# Altium footprint library PcbLib1.PcbLib: 29 footprints (part 1 of 2)
Each footprint in its own frame and in the unit in brackets; x right, y up, seen from the top. Pads: shape width x height; smd on the part's side, far side on the other; paste and mask are expansions set on the pad; w line width, h text height; cw(c..) or ccw(c..) is an arc to the next point about the centre after c.
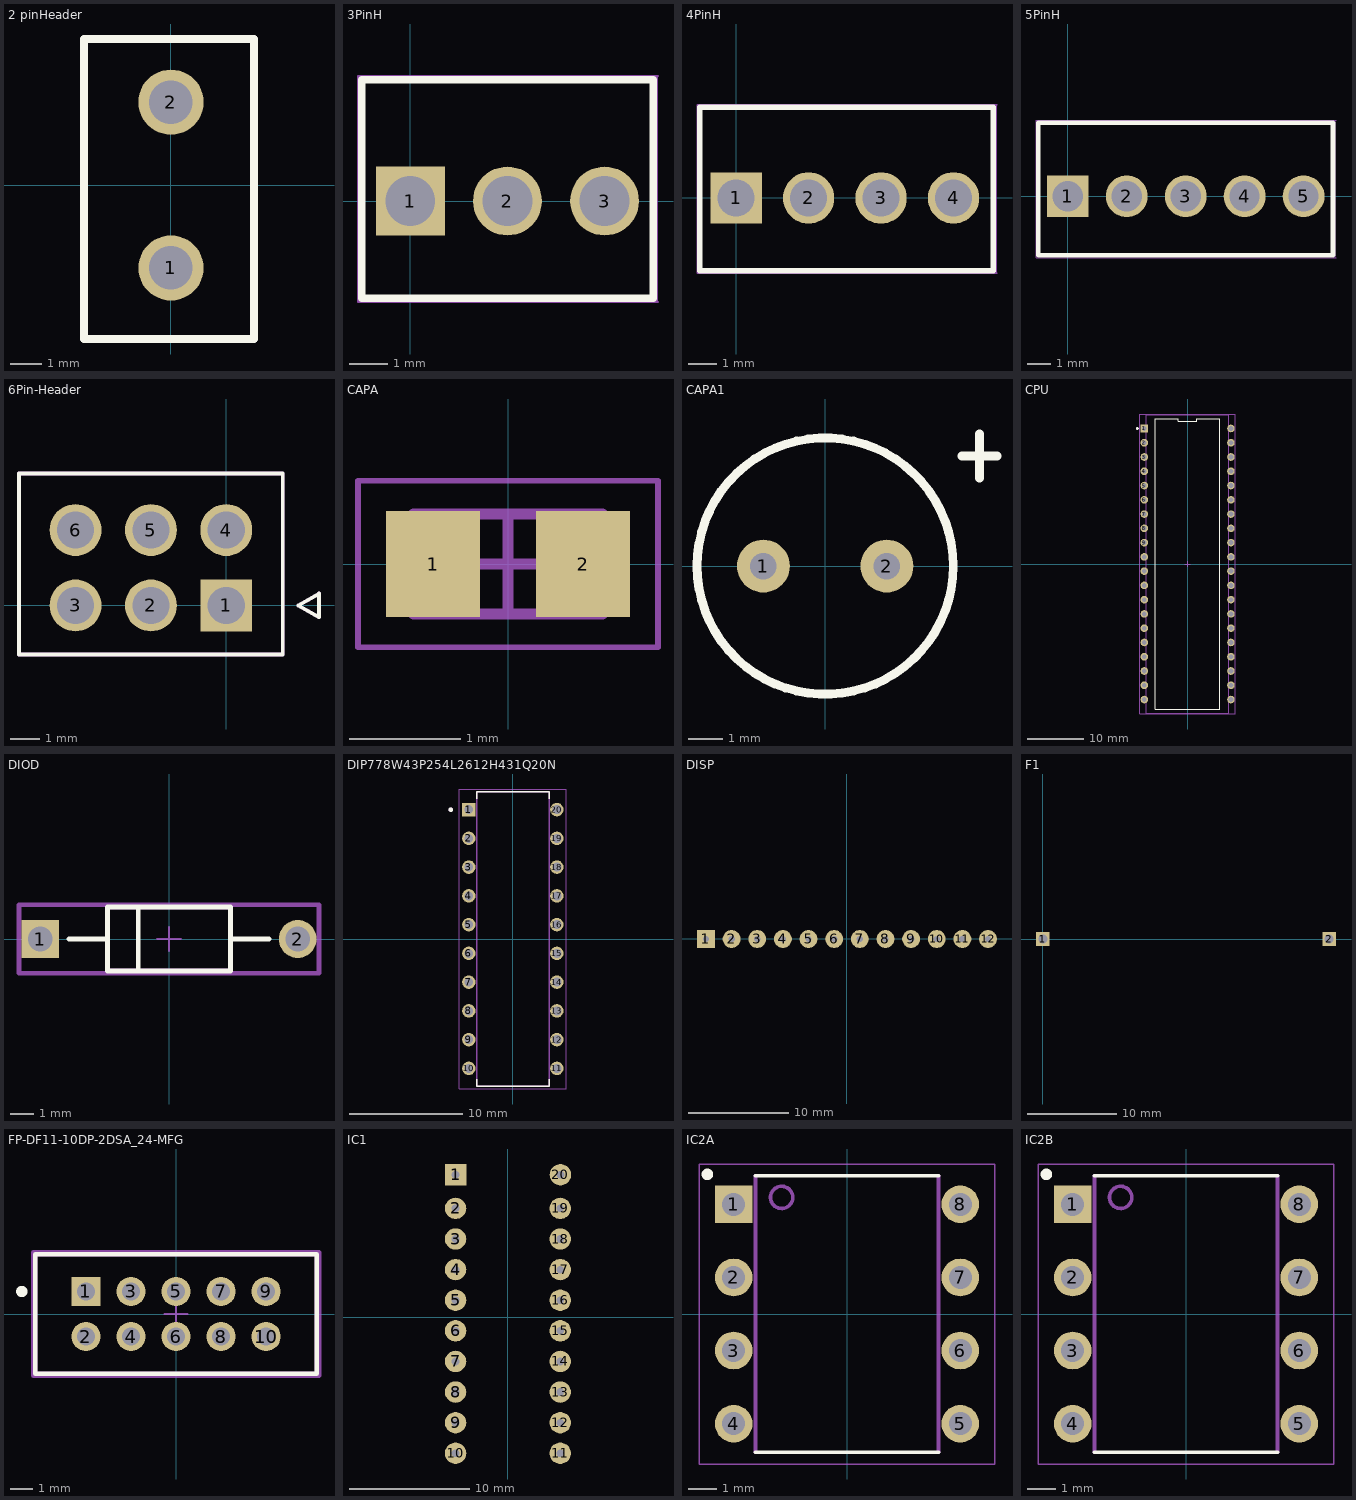
[diagram p0: the footprints below, top view; thin cyan lines are the x and y axes]

## 2 pinHeader [mm]
pads (2):
  round 2.1 hole 1.4: 1(0,-2.667) 2(0,2.667)
Top Overlay:
  lines w0.254: -2.794,-4.953 2.667,-4.953 2.667,4.699 -2.794,4.699 -2.794,4.445 -2.794,-4.953

## 3PinH [mm] "TECO-640456-6_V"
height 10.03
pads (3):
  rect 1.8x1.8 hole 1.3: 1(0,0)
  round 1.8 hole 1.3: 2(2.54,0) 3(5.08,0)
Top Overlay:
  lines w0.2: -1.27,-2.545 6.35,-2.545 6.35,3.175 -1.27,3.175 -1.27,-2.545
Mechanical 13:
  lines w0.1: -1.27,-2.545 6.35,-2.545 6.35,-1.115 6.35,1.745 6.35,3.175 -1.27,3.175 -1.27,-2.545
Mechanical 15:
  lines w0.05: 6.45,-2.645 6.45,-1.165 6.45,1.795 6.45,3.275 ; 6.477,-2.645 -1.37,-2.645 -1.37,3.275 6.477,3.275
3D body: height 10.03, standoff 0, extent -1.27,-2.606 6.223,3.114

## 4PinH [mm] "TECO-640456-6_V"
height 10.03
pads (4):
  rect 1.8x1.8 hole 1.3: 1(0,0)
  round 1.8 hole 1.3: 2(2.54,0) 3(5.08,0) 4(7.62,0)
Top Overlay:
  lines w0.2: -1.27,-2.545 9.017,-2.545 9.017,3.175 -1.27,3.175 -1.27,-2.545
Mechanical 13:
  lines w0.1: -1.27,-2.545 9.017,-2.545 9.017,3.175 -1.27,3.175 -1.27,-2.545
Mechanical 15:
  lines w0.05: 9.117,-2.645 9.117,3.275 ; 9.144,-2.645 -1.37,-2.645 -1.37,3.275 9.144,3.275
3D body: height 10.03, standoff 0, extent -1.27,-2.545 9.017,3.175

## 5PinH [mm] "TECO-640456-6_V"
height 10.03
pads (5):
  rect 1.8x1.8 hole 1.3: 1(0,0)
  round 1.8 hole 1.3: 2(2.54,0) 3(5.08,0) 4(7.62,0) 5(10.16,0)
Top Overlay:
  lines w0.2: -1.27,-2.545 11.43,-2.545 11.43,3.175 -1.27,3.175 -1.27,-2.545
Mechanical 13:
  lines w0.1: -1.27,-2.545 11.43,-2.545 11.43,3.175 -1.27,3.175 -1.27,-2.545
Mechanical 15:
  lines w0.05: 11.53,-2.645 11.53,3.275 ; 11.557,-2.645 -1.37,-2.645 -1.37,3.275 11.557,3.275
3D body: height 10.03, standoff 0, extent -1.27,-2.545 11.43,3.175

## 6Pin-Header [mm] "MOLEX_1510481611"
height 16
pads (6):
  rect 1.75x1.75 / inner round 1.75 / far side rect 1.75x1.75 hole 1.25 mask+0.076: 1(0,0)
  round 1.75 hole 1.25 mask+0.076: 2(-2.54,0) 3(-5.08,0) 4(0,2.54) 5(-2.54,2.54) 6(-5.08,2.54)
Top Overlay:
  lines w0.127: 1.85,4.445 -6.985,4.445 -6.985,-1.651 1.905,-1.651 1.905,4.445 ; 2.426,0 3.126,-0.4 3.126,0.4 2.426,0
Mechanical 13:
  lines w0.127: 3.126,-0.4 2.426,0 3.126,0.4 ; -6.985,-1.651 -6.985,4.445 1.905,4.445 1.905,-1.651 -6.985,-1.651

## CAPA [mm]
height 0.9
pads (2):
  rect 0.85x0.95 smd: 1(-0.675,0) 2(0.675,0)
Mechanical 13:
  lines w0.1: -0.85,-0.45 -0.85,0.45 0.85,0.45 0.85,-0.45 -0.85,-0.45
Mechanical 15:
  lines w0.05: -1.35,-0.75 -1.35,0.75 1.35,0.75 1.35,-0.75 -1.35,-0.75
  lines w0.1: -0.45,0 0.45,0 ; 0,-0.45 0,0.45
3D body: height 0.9, standoff 0, extent -0.5,-0.45 0.5,0.45
3D body: height 0.9, standoff 0, extent -0.85,-0.45 -0.5,0.45
3D body: height 0.9, standoff 0, extent 0.5,-0.45 0.85,0.45

## CAPA1 [mil]
pads (2):
  round 60 hole 30: 1(-70,0) 2(70,0)
Top Overlay:
  circle w10: c0,0 r145.34
  lines w10: 155,125 195,125 ; 175,100 175,150

## CPU [mm] "FP-C04-016-MFG"
pads (40):
  rect 1.35x1.35 hole 0.85 paste-2539.97 mask+0: 1(-7.715,24.13)
  round 1.35 hole 0.85 paste-2539.97 mask+0: 2(-7.715,21.59) 3(-7.715,19.05) 4(-7.715,16.51) 5(-7.715,13.97) 6(-7.715,11.43) 7(-7.715,8.89) 8(-7.715,6.35) 9(-7.715,3.81) 10(-7.715,1.27) 11(-7.715,-1.27) 12(-7.715,-3.81) 13(-7.715,-6.35) 14(-7.715,-8.89) 15(-7.715,-11.43) 16(-7.715,-13.97) 17(-7.715,-16.51) 18(-7.715,-19.05) 19(-7.715,-21.59) 20(-7.715,-24.13) 21(7.715,-24.13) 22(7.715,-21.59) 23(7.715,-19.05) 24(7.715,-16.51) 25(7.715,-13.97) 26(7.715,-11.43) 27(7.715,-8.89) 28(7.715,-6.35) 29(7.715,-3.81) 30(7.715,-1.27) 31(7.715,1.27) 32(7.715,3.81) 33(7.715,6.35) 34(7.715,8.89) 35(7.715,11.43) 36(7.715,13.97) 37(7.715,16.51) 38(7.715,19.05) 39(7.715,21.59) 40(7.715,24.13)
Top Overlay:
  circle w0.25: c-8.94,24.13 r0.125
  lines w0.2: -5.763,-25.876 -5.763,25.876 -1.646,25.876 -1.646,25.376 1.646,25.376 1.646,25.876 5.763,25.876 5.763,-25.876 -5.763,-25.876
Top 3D Body:
  lines w0.2: -7.366,-26.607 7.366,-26.607 7.366,26.607 -7.366,26.607 -7.366,-26.607
Top Courtyard:
  lines w0.2: -8.49,-26.706 8.49,-26.706 8.49,26.706 -8.49,26.706 -8.49,-26.706
Top Assembly:
  lines w0.2: -8.49,-26.706 8.49,-26.706 8.49,26.706 -8.49,26.706 -8.49,-26.706
  text ".Designator" at 0,0.188 h1
Top Component Center:
  lines w0.1: -0.5,0 0.5,0 ; 0,-0.5 0,0.5
3D body "IC_Microchip_Technology_PIC18LF47K40-I-P_eec.STEP": height 0.25, standoff 0, extent -8.49,-26.706 8.49,26.706

## DIOD [mm] "FP-1N4001-E3-54-MFG"
pads (2):
  rect 1.6x1.6 hole 1.05 paste-2539.97 mask+0: 1(-5.438,0)
  round 1.6 hole 1.05 paste-2539.97 mask+0: 2(5.438,0)
Top Overlay:
  lines w0.2: -4.238,0 -2.6,0 ; -1.3,-1.28 -1.3,1.28 ; 2.6,0 4.238,0 ; -2.6,-1.35 -2.6,1.35 2.6,1.35 2.6,-1.35 -2.6,-1.35
Top 3D Body:
  lines w0.2: -2.6,-1.35 -2.6,1.35 2.6,1.35 2.6,-1.35 -2.6,-1.35
Top Courtyard:
  lines w0.2: -6.338,-1.45 -6.338,1.45 6.338,1.45 6.338,-1.45 -6.338,-1.45
Top Assembly:
  lines w0.2: -6.338,-1.45 -6.338,1.45 6.338,1.45 6.338,-1.45 -6.338,-1.45
  text ".Designator" at 0,0.188 h1
Top Component Center:
  lines w0.1: -0.5,0 0.5,0 ; 0,-0.5 0,0.5
3D body "Diode_Vishay_1N4001-E3-54_eec.STEP": height 0.25, standoff 0, extent -6.338,-1.45 6.338,1.45

## DIP778W43P254L2612H431Q20N [mm] "Led drive control"
pads (20):
  rect 1.19x1.19 hole 0.79: 1(-3.89,11.43)
  round 1.19 hole 0.79: 2(-3.89,8.89) 3(-3.89,6.35) 4(-3.89,3.81) 5(-3.89,1.27) 6(-3.89,-1.27) 7(-3.89,-3.81) 8(-3.89,-6.35) 9(-3.89,-8.89) 10(-3.89,-11.43) 11(3.89,-11.43) 12(3.89,-8.89) 13(3.89,-6.35) 14(3.89,-3.81) 15(3.89,-1.27) 16(3.89,1.27) 17(3.89,3.81) 18(3.89,6.35) 19(3.89,8.89) 20(3.89,11.43)
Top Overlay:
  circle w0.2: c-5.485,11.43 r0.1
  lines w0.127: -3.2,-12.375 -3.2,-13 3.2,-13 3.2,-12.375 ; -3.2,12.375 -3.2,13 3.2,13 3.2,12.375
Mechanical 13:
  circle w0.2: c-5.485,11.43 r0.1
  lines w0.127: -3.2,-13 3.2,-13 3.2,13 -3.2,13 -3.2,-13
Mechanical 15:
  lines w0.05: -4.735,-13.25 -4.735,13.25 4.735,13.25 4.735,-13.25 -4.735,-13.25
3D body "step_temp.STEP": height 4.31, standoff -3.6, extent -4.03,-13 4.03,13

## DISP [mil]
pads (12):
  rect 70x70 hole 25: 1(-550,0)
  round 70 hole 25: 2(-450,0) 3(-350,0) 4(-250,0) 5(-150,0) 6(-50,0) 7(50,0) 8(150,0) 9(250,0) 10(350,0) 11(450,0) 12(550,0)

## F1 [mil]
pads (2):
  rect 60x60 hole 40 square: 1(0,0) 2(1259.84,0)

## FP-DF11-10DP-2DSA_24-MFG [mm]
pads (10):
  rect 1.3x1.3 hole 0.8 paste-2539.97 mask+0: 1(-4,1)
  round 1.3 hole 0.8 paste-2539.97 mask+0: 2(-4,-1) 3(-2,1) 4(-2,-1) 5(0,1) 6(0,-1) 7(2,1) 8(2,-1) 9(4,1) 10(4,-1)
Top Overlay:
  circle w0.25: c-6.85,1 r0.125
  lines w0.2: -6.25,-2.65 6.25,-2.65 6.25,2.65 -6.25,2.65 -6.25,-2.65
Top 3D Body:
  lines w0.2: -6.25,-2.65 6.25,-2.65 6.25,2.65 -6.25,2.65 -6.25,-2.65
Top Courtyard:
  lines w0.2: -6.35,-2.75 6.35,-2.75 6.35,2.75 -6.35,2.75 -6.35,-2.75
Top Assembly:
  lines w0.2: -6.35,-2.75 6.35,-2.75 6.35,2.75 -6.35,2.75 -6.35,-2.75
  text ".Designator" at 0,0.188 h1
Top Component Center:
  lines w0.1: -0.5,0 0.5,0 ; 0,-0.5 0,0.5
3D body "Conn_Hirose_DF11-10DP-2DSA_24_eec.STEP": height 0.25, standoff 0, extent -6.35,-2.75 6.35,2.75

## IC1 [mil]
pads (20):
  rect 70x70 hole 25: 1(-170,465)
  round 70 hole 25: 2(-170,355) 3(-170,255) 4(-170,155) 5(-170,55) 6(-170,-45) 7(-170,-145) 8(-170,-245) 9(-170,-345) 10(-170,-445) 11(172,-445) 12(172,-345) 13(172,-245) 14(172,-145) 15(172,-45) 16(172,55) 17(172,155) 18(172,255) 19(172,355) 20(172.52,465)

## IC2A [mm]
pads (8):
  rect 1.308x1.308 hole 0.8: 1(-3.935,3.81)
  round 1.308 hole 0.8: 2(-3.935,1.27) 3(-3.935,-1.27) 4(-3.935,-3.81) 5(3.935,-3.81) 6(3.935,-1.27) 7(3.935,1.27) 8(3.935,3.81)
Top Overlay:
  circle w0.2: c-4.85,4.85 r0.1
  lines w0.127: -3.18,-4.8 3.18,-4.8 ; -3.18,4.8 3.18,4.8
Mechanical 13:
  circle w0.127: c-2.27,4.05 r0.386
  lines w0.127: -3.18,-4.8 -3.18,4.8 ; 3.18,-4.8 3.18,4.8
Mechanical 15:
  lines w0.05: -5.13,-5.21 5.13,-5.21 5.13,5.21 -5.13,5.21 -5.13,-5.21

## IC2B [mm]
pads (8):
  rect 1.308x1.308 hole 0.8: 1(-3.935,3.81)
  round 1.308 hole 0.8: 2(-3.935,1.27) 3(-3.935,-1.27) 4(-3.935,-3.81) 5(3.935,-3.81) 6(3.935,-1.27) 7(3.935,1.27) 8(3.935,3.81)
Top Overlay:
  circle w0.2: c-4.85,4.85 r0.1
  lines w0.127: -3.18,-4.8 3.18,-4.8 ; -3.18,4.8 3.18,4.8
Mechanical 13:
  circle w0.127: c-2.27,4.05 r0.386
  lines w0.127: -3.18,-4.8 -3.18,4.8 ; 3.18,-4.8 3.18,4.8
Mechanical 15:
  lines w0.05: -5.13,-5.21 5.13,-5.21 5.13,5.21 -5.13,5.21 -5.13,-5.21